# Altium footprint library OFC1.PcbLib: 20 footprints (part 1 of 2)
Each footprint in its own frame and in the unit in brackets; x right, y up, seen from the top. Pads: shape width x height; smd on the part's side, far side on the other; paste and mask are expansions set on the pad; w line width, h text height; cw(c..) or ccw(c..) is an arc to the next point about the centre after c.
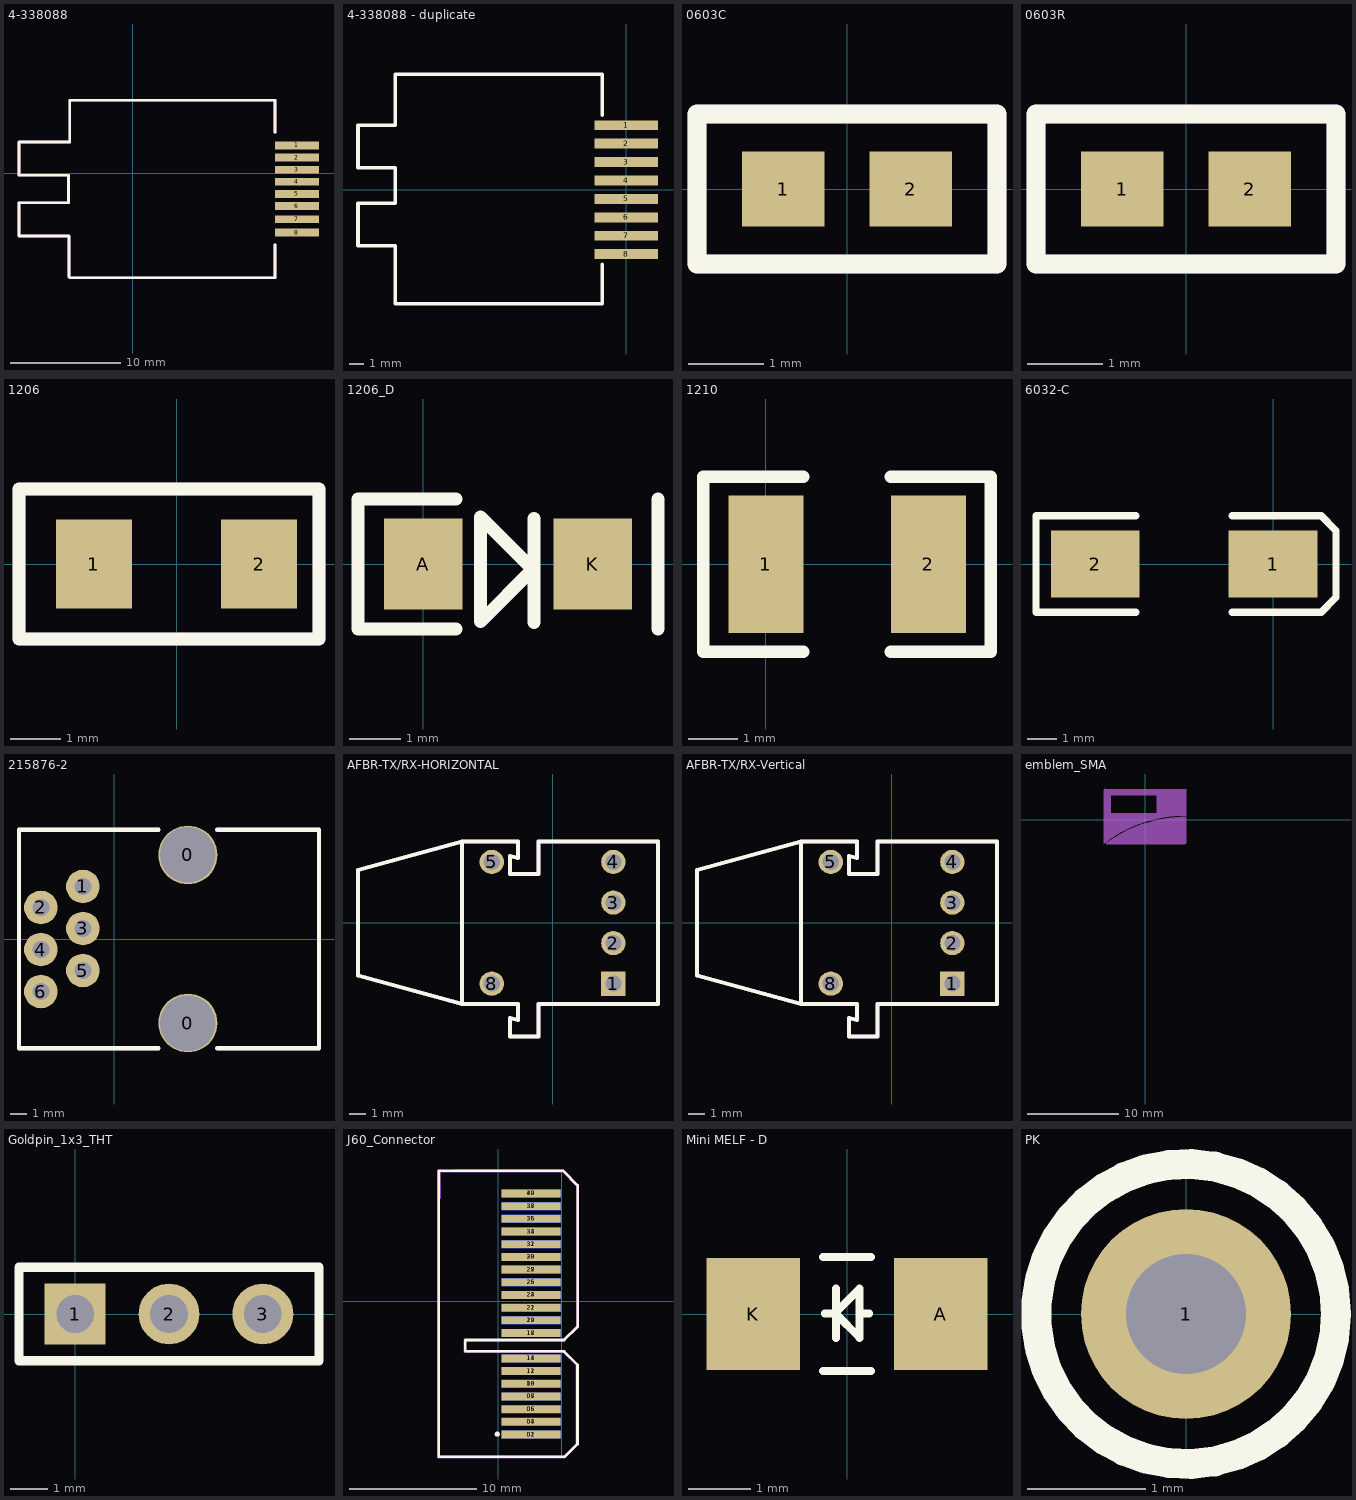
[diagram p0: the footprints below, top view; thin cyan lines are the x and y axes]

## 4-338088 [mm]
pads (8):
  rect 4x0.7 smd: 1(14.9,2.5) 2(14.9,1.4) 3(14.9,0.3) 4(14.9,-0.8) 5(14.9,-1.9) 6(14.9,-3) 7(14.9,-4.2) 8(14.9,-5.4)
Top Overlay:
  lines w0.254: -5.766,-9.434 -5.766,-5.7 -10.3,-5.7 -10.3,-2.7 -5.8,-2.7 -5.8,-0.2 -10.3,-0.2 -10.3,2.8 -5.716,2.8 ; -5.7,-9.5 12.9,-9.5 12.9,-6.5 ; -5.7,2.816 -5.7,6.6 12.9,6.6 12.9,3.7
Top Assembly:
  lines w0.254: -5.766,-9.434 -5.766,-5.7 -10.3,-5.7 -10.3,-2.7 -5.8,-2.7 -5.8,-0.2 -10.3,-0.2 -10.3,2.8 -5.716,2.8 ; -5.7,-9.5 12.9,-9.5 12.9,-6.5 ; -5.7,2.816 -5.7,6.6 12.9,6.6 12.9,3.7
  text ".Designator" at -3.499,-0.233 h0.7
3D body "c-4-338088-3-y-3d.stp": height 12.61, standoff -0.09, extent -5.4,-9.175 12.6,6.375

## 4-338088 - duplicate [mm]
pads (8):
  rect 4.5x0.7 smd: 1(0,4.55) 2(0,3.25) 3(0,1.95) 4(0,0.65) 5(0,-0.65) 6(0,-1.95) 7(0,-3.25) 8(0,-4.55)
Top Overlay:
  lines w0.254: -1.7,-5.25 -1.7,-7.85 -1.7,-8.05 -15.7,-8.05 -16.3,-8.05 -16.3,-3.95 -18.934,-3.95 -18.934,-0.95 -16.3,-0.95 -16.3,1.55 -18.934,1.55 -18.934,4.55 -16.3,4.55 -16.3,7.95 -16.3,8.15 -2.3,8.15 -1.7,8.15 -1.7,5.25
Top Assembly:
  text ".Designator" at -12.899,-0.033 h0.7
3D body "c-4-338088-3-y-3d.stp": height 12.61, standoff -0.09, extent -18.2,-7.725 -0.2,7.825

## 0603C [mm]
pads (2):
  rect 1.1x1 smd: 1(-0.85,0) 2(0.85,0)
Top Overlay:
  lines w0.254: -2,-1 2,-1 2,1 -1.5,1 -2,1 -2,-1
Top Assembly:
  lines w0.254: -2,-1 2,-1 2,1 -1.5,1 -2,1 -2,-1
  text ".Designator" at -3.499,-0.233 h0.7
3D body "06035J100JBTTR.STEP": height 0.74, standoff 0.01, extent -0.8,-0.405 0.8,0.405

## 0603R [mm]
pads (2):
  rect 1.1x1 smd: 1(-0.85,0) 2(0.85,0)
Top Overlay:
  lines w0.254: -2,-1 -2,1 -1.5,1 2,1 2,-1 -2,-1
Top Assembly:
  lines w0.254: -2,-1 -2,1 -1.5,1 2,1 2,-1 -2,-1
  text ".Designator" at -3.499,-0.233 h0.7
3D body "RC0603FR-074K7L.step": height 0.56, standoff 0.01, extent -0.8,-0.4 0.8,0.4

## 1206 [mil]
pads (2):
  rect 60x70 smd: 1(-65,0) 2(65,0)
Top Overlay:
  lines w10: -124.06,-59.06 -124.06,59.06 112.17,59.06 112.17,-59.06 -124.06,-59.06
Top Assembly:
  lines w10: -124.06,-59.06 -124.06,59.06 112.17,59.06 112.17,-59.06 -124.06,-59.06
  text ".Designator" at -137.75,-9.18 h27.56
3D body "12063C106KAT2A.step": height 63.49, standoff 0.5, extent -62.99,-42.91 62.99,47.24

## 1206_D [mil]
pads (2):
  rect 60x70 smd: A(0,0) K(130,0)
Top Overlay:
  lines w10: 25,-50 -50,-50 -50,50 25,50 ; 85,-45 85,35 ; 180,-50 180,50 ; 44.04,-44.04 44.04,35.96 84.04,-4.04 44.04,-44.04

## 1210 [mil]
pads (2):
  rect 60x110 smd: 1(0,0) 2(130,0)
Top Overlay:
  lines w10: 30,-70 -50,-70 -50,70 30,70 ; 100,-70 180,-70 180,70 100,70

## 6032-C [mil]
pads (2):
  rect 120x90 smd: 1(0,0) 2(-240,0)
Top Overlay:
  lines w10: -185,-65 -320,-65 -320,65 -185,65 ; -55,-65 65,-65 85,-45 85,45 65,65 -55,65

## 215876-2 [mil]
pads (8):
  round 140 hole 132: 0(175,-200) 0(175,200)
  round 80 hole 40: 1(-75,125) 2(-175,75) 3(-75,25) 4(-175,-25) 5(-75,-75) 6(-175,-125)
Top Overlay:
  lines w10: 105,-260 -227,-260 -227,260 105,260 ; 245,-260 487,-260 487,-200 487,200 487,260 245,260
Top Assembly:
  lines w10: 105,-260 -227,-260 -227,260 105,260 ; 245,-260 487,-260 487,-200 487,200 487,260 245,260
  text ".Designator" at -137.75,-9.18 h27.56

## AFBR-TX/RX-HORIZONTAL [mil]
pads (6):
  rect 60x60 hole 40: 1(150,-150)
  round 60 hole 40: 2(150,-50) 3(150,50) 4(150,150) 5(-150,150) 8(-150,-150)
Top Overlay:
  lines w10: -223,-200 -480,-130 -480,130 -223,200 ; -223,-200 -220,-200 -127.5,-200 -85,-200 -85,-240 -105,-235 -105,-280 -35,-280 -35,-200 260,-200 260,-150 260,150 260,200 -35,200 -35,120 -105,120 -105,165 -85,160 -85,200 -220,200 -223,200 ; -223,-200 -223,-150 -223,200
Top Assembly:
  lines w10: -223,-200 -480,-130 -480,130 -223,200 ; -223,-200 -220,-200 -127.5,-200 -85,-200 -85,-240 -105,-235 -105,-280 -35,-280 -35,-200 260,-200 260,-150 260,150 260,200 -35,200 -35,120 -105,120 -105,165 -85,160 -85,200 -220,200 -223,200 ; -223,-200 -223,-150 -223,200
  text ".Designator" at -137.75,-9.18 h27.56
3D body "User Library-optokonektor-1.STEP": height 738.18, standoff -129.92, extent -463.58,-299.21 256.89,204.72

## AFBR-TX/RX-Vertical [mil]
pads (6):
  rect 60x60 hole 40: 1(150,-150)
  round 60 hole 40: 2(150,-50) 3(150,50) 4(150,150) 5(-150,150) 8(-150,-150)
Top Overlay:
  lines w10: -223,-200 -480,-130 -480,130 -223,200 ; -223,-200 -220,-200 -127.5,-200 -85,-200 -85,-240 -105,-235 -105,-280 -35,-280 -35,-200 260,-200 260,-150 260,150 260,200 -35,200 -35,120 -105,120 -105,165 -85,160 -85,200 -220,200 -223,200 ; -223,-200 -223,-150 -223,200
Top Assembly:
  lines w10: -223,-200 -223,-150 -223,200 ; -223,-200 -220,-200 -127.5,-200 -85,-200 -85,-240 -105,-235 -105,-280 -35,-280 -35,-200 260,-200 260,-150 260,150 260,200 -35,200 -35,120 -105,120 -105,165 -85,160 -85,200 -220,200 -223,200 ; -223,-200 -480,-130 -480,130 -223,200
  text ".Designator" at -137.75,-9.18 h27.56

## emblem_SMA [mil]
Top Solder:
  rectangle: 90.74,-96.2 176.74,5.3
  rectangle: 58.74,-96.2 90.74,-1.2
  rectangle: 35.24,-96.2 58.74,-6.7
  rectangle: 15.74,-96.2 35.24,-11.2
  rectangle: -153.26,-96.2 15.74,-89.7
  rectangle: -31.26,-89.7 15.74,-30.7
  rectangle: -73.76,-89.7 -31.26,-47.7
  rectangle: -119.26,-89.7 -73.76,-70.2
  rectangle: -112.26,-70.2 -73.76,-64.2
  rectangle: -6.26,-30.7 15.74,-17.7
  rectangle: -24.76,-30.7 -6.26,-24.2
  rectangle: -65.76,-47.7 -31.26,-40.7
  rectangle: -50.26,-40.7 -31.26,-34.2
  rectangle: -88.26,-64.2 -73.76,-51.2
  rectangle: -99.76,-64.2 -88.76,-57.7
  rectangle: -142.76,-89.7 -119.26,-82.7
  rectangle: -131.76,-82.7 -119.26,-75.7
  rectangle: -162.26,-102.27 -153.26,-96.2
  rectangle: -153.26,-102.2 170.43,-96.2
  rectangle: 170.43,-101.2 174.74,-96.2
  rectangle: 174.74,-98.7 175.74,-96.2
  rectangle: 175.74,-97.2 176.74,-96.2
  rectangle: 47.24,18.8 176.74,133.8
  rectangle: -172.76,106.3 47.24,133.8
  rectangle: -178.26,106.3 -172.76,127.8
  rectangle: -178.26,-78.2 -149.76,106.3
  rectangle: -178.26,-83.2 -154.76,-78.2
  rectangle: -178.26,-88.2 -162.26,-83.2
  rectangle: -178.12,-94.2 -169.76,-88.2
  rectangle: -175.26,127.8 -171.94,132.8
  rectangle: -177.26,127.8 -175.26,130.8
  rectangle: -176.26,130.8 -175.26,131.8
  rectangle: -177.76,127.8 -177.26,129.3
  rectangle: -152.26,7.3 62.24,13.3
  rectangle: -152.26,-20.2 -40.76,7.3
  rectangle: -40.76,-16.7 -24.76,7.3
  rectangle: -24.76,0.3 31.74,7.3
  rectangle: -24.76,-6.7 4.24,0.8
  rectangle: -24.76,-11.7 -11.26,-6.7
  rectangle: -150.26,-23.2 -47.26,-18.7
  rectangle: -150.26,-75.7 -142.26,-23.2
  rectangle: -150.26,-47.7 -97.26,-23.2
  rectangle: -97.26,-43.2 -88.76,-23.2
  rectangle: -88.76,-35.2 -68.26,-23.2
  rectangle: -68.26,-27.2 -53.26,-23.2
  rectangle: -68.26,-29.7 -62.76,-27.2
  rectangle: -88.76,-39.2 -80.76,-35.2
  rectangle: -142.26,-52.2 -105.26,-47.2
  rectangle: -142.26,-56.7 -113.26,-52.2
  rectangle: -142.26,-62.2 -121.26,-56.7
  rectangle: -142.26,-67.2 -130.26,-62.2
  rectangle: -142.26,-71.2 -138.76,-67.2
  rectangle: -138.76,-68.2 -136.26,-67.2
  rectangle: -169.76,-90.2 -166.26,-88.2
  rectangle: -178.12,-94.7 -175.26,-94.2
  rectangle: -40.76,-20.2 -34.26,-16.2
  rectangle: 4.24,-3.7 11.74,0.8
  rectangle: 31.74,3.8 36.24,7.3
  rectangle: -34.76,-34.2 -31.26,-32.7
  rectangle: -68.26,-47.7 -65.76,-46.2
  rectangle: -88.76,-64.2 -88.26,-57.7
  rectangle: -121.26,-75.7 -119.26,-73.2
  rectangle: -152.26,13.3 98.24,30.73
  lines w1: -178.36,-100.57 cw(c175.74,-566.7) 176.74,18.68 ; -178.36,-99.57 cw(c175.74,-565.7) 176.74,19.68 ; -178.36,-98.57 cw(c175.74,-564.7) 176.74,20.68 ; -178.36,-97.57 cw(c175.74,-563.7) 176.74,21.68 ; -178.36,-96.57 cw(c175.74,-562.7) 176.74,22.68 ; -178.12,-95.39 cw(c175.74,-561.7) 176.74,23.68 ; -170.37,-102.11 cw(c175.74,-574.2) 176.74,11.18 ; -169.24,-102.28 cw(c175.74,-575.2) 176.74,10.18 ; -167.46,-101.99 cw(c175.74,-576.2) 176.74,9.18 ; -166.33,-102.17 cw(c175.74,-577.2) 176.74,8.18 ; -164.86,-102.12 cw(c175.74,-578.2) 176.74,7.18 ; -163.39,-102.07 cw(c175.74,-579.2) 176.74,6.18 ; -162.26,-102.27 cw(c175.74,-580.2) 176.74,5.18 ; 170.43,-101.2 ccw(c170.59,-95.04) 176.74,-95.2 ; 170.43,-100.2 ccw(c170.59,-94.04) 176.74,-94.2
  lines w1.2: -178.26,-100.57 -178.26,127.8 cw(c-172.1,127.64) -171.94,133.8 176.74,133.8 176.74,18.68 ; -178.26,126.8 cw(c-172.1,126.64) -171.94,132.8 ; -170.37,-102.27 170.36,-102.27 ; 170.43,-102.2 ccw(c170.59,-96.04) 176.74,-96.2 176.74,11.18
  text "SMA" at -151.42,24.68 h110

## Goldpin_1x3_THT [mil]
pads (3):
  rect 65x65 hole 40: 1(0,0)
  round 65 hole 40: 2(100,0) 3(200,0)
Top Overlay:
  lines w10: -59.84,-50 -59.84,50 259.84,50 259.84,-50 -59.84,-50

## J60_Connector [mil]
pads (38):
  rect 183x24 smd far side: 01(102.36,-413.39) 03(102.36,-374.02) 05(102.36,-334.65) 07(102.36,-295.28) 09(102.36,-255.91) 11(102.36,-216.54) 13(102.36,-177.17) 17(102.36,-98.43) 19(102.36,-59.06) 21(102.36,-19.69) 23(102.36,19.68) 25(102.36,59.06) 27(102.36,98.43) 29(102.36,137.8) 31(102.36,177.17) 33(102.36,216.54) 35(102.36,255.91) 37(102.36,295.28) 39(102.36,334.65)
  rect 183x24 smd: 02(102.36,-413.39) 04(102.36,-374.02) 06(102.36,-334.65) 08(102.36,-295.28) 10(102.36,-255.91) 12(102.36,-216.54) 14(102.36,-177.17) 18(102.36,-98.43) 20(102.36,-59.06) 22(102.36,-19.69) 24(102.36,19.68) 26(102.36,59.06) 28(102.36,98.43) 30(102.36,137.8) 32(102.36,177.17) 34(102.36,216.54) 36(102.36,255.91) 38(102.36,295.28) 40(102.36,334.65)
Top Overlay:
  circle w7.87: c-2.95,-412.4 r3.94
  lines w7.87: -184.06,404.49 -184.06,-483.05 137.6,-483.05 199.59,-483.05 205.93,-483.05 246.06,-442.91 246.06,-196.85 204.72,-155.51 -102.17,-155.51 -102.36,-155.31 -102.36,-120.08 204.72,-120.08 245.39,-79.42 ; -182.12,404.49 -137.6,404.49 201.99,404.49 246.59,359.9 246.59,-78.22
Top Assembly:
  lines w7.87: -184.06,-399.8 -184.06,-483.05 137.6,-483.05 204.35,-483.05 244.49,-442.91 244.49,-399.02 ; -182.12,321.25 -182.12,404.49 ; -182.12,404.28 134.61,404.28 ; 134.86,404.53 200.79,404.53 246.06,359.25 246.06,319.88
  text ".Designator" at -137.75,-9.18 h27.56
Bottom Assembly:
  lines w7.87: -132.91,404.49 137.8,404.49
Top 3D Body:
  lines w7.87: -185.85,404.28 -185.85,-483.27 135.81,-483.27 197.8,-483.27 204.13,-483.27 244.27,-443.13 244.27,-197.07 202.93,-155.73 -103.96,-155.73 -104.15,-155.53 -104.15,-120.3 202.93,-120.3 243.59,-79.63 ; -183.91,404.28 -139.39,404.28 200.2,404.28 244.8,359.68 244.8,-78.43
Top Courtyard:
  lines w1.97: -185.85,404.49 197.83,404.49 ; -185.85,404.53 -185.85,-483.27 197.83,-483.27 197.83,404.53
3D body "MEC1-120-02-FM-D-EM2.stp": height 134, standoff -134, extent -350.98,-712.52 194.02,643.62

## Mini MELF - D [mm]
pads (2):
  rect 1.5x1.8 smd: A(1.5,0) K(-1.5,0)
Top Overlay:
  lines w0.127: -0.381,-0.914 0.381,-0.914 ; -0.381,0.914 0.381,0.914 ; -0.356,0.008 -0.229,0.008 ; -0.195,0.008 0.203,0.406 0.203,-0.381 -0.186,0.008 ; -0.178,-0.381 -0.178,0.406 ; 0.229,0.008 0.356,0.008
3D body "SMA_DIO.step": height 2.35, standoff 0, extent -2.973,-1.46 2.617,1.46

## PK [mil]
pads (1):
  round 70 hole 40: 1(0,0)
Top Overlay:
  circle w10: c0,0 r50